# EAGLE library part KSZ9031RNX (library gothack-made)
KSZ9031RNX
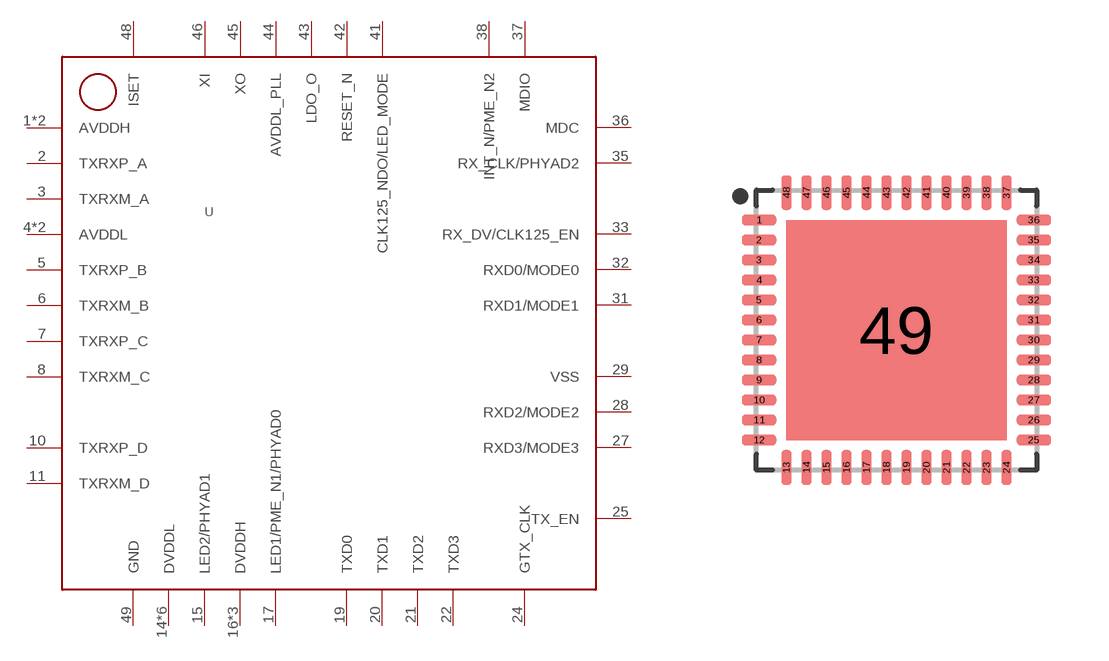
[diagram p0: symbol with the pads of QFN50P700X700X90-49N; footprint QFN50P700X700X90-49N]

Designator prefix -

## KSZ9031RNX  [QFN50P700X700X90-49N]
1  AVDDH
2  TXRXP_A
3  TXRXM_A
4  AVDDL
5  TXRXP_B
6  TXRXM_B
7  TXRXP_C
8  TXRXM_C
9  AVDDL
10  TXRXP_D
11  TXRXM_D
12  AVDDH
14  DVDDL
15  LED2/PHYAD1
16  DVDDH
17  LED1/PME_N1/PHYAD0
18  DVDDL
19  TXD0
20  TXD1
21  TXD2
22  TXD3
23  DVDDL
24  GTX_CLK
25  TX_EN
26  DVDDL
27  RXD3/MODE3
28  RXD2/MODE2
29  VSS
30  DVDDL
31  RXD1/MODE1
32  RXD0/MODE0
33  RX_DV/CLK125_EN
34  DVDDH
35  RX_CLK/PHYAD2
36  MDC
37  MDIO
38  INT_N/PME_N2
39  DVDDL
40  DVDDH
41  CLK125_NDO/LED_MODE
42  RESET_N
43  LDO_O
44  AVDDL_PLL
45  XO
46  XI
48  ISET
49  GND

## Footprint QFN50P700X700X90-49N (pad centres in mm)
smd 0.86 x 0.26: 1 -3.435,2.75; 2 -3.435,2.25; 3 -3.435,1.75; 4 -3.435,1.25; 5 -3.435,0.75; 6 -3.435,0.25; 7 -3.435,-0.25; 8 -3.435,-0.75; 9 -3.435,-1.25; 10 -3.435,-1.75; 11 -3.435,-2.25; 12 -3.435,-2.75; 25 3.435,-2.75; 26 3.435,-2.25; 27 3.435,-1.75; 28 3.435,-1.25; 29 3.435,-0.75; 30 3.435,-0.25; 31 3.435,0.25; 32 3.435,0.75; 33 3.435,1.25; 34 3.435,1.75; 35 3.435,2.25; 36 3.435,2.75
smd 0.26 x 0.86: 13 -2.75,-3.435; 14 -2.25,-3.435; 15 -1.75,-3.435; 16 -1.25,-3.435; 17 -0.75,-3.435; 18 -0.25,-3.435; 19 0.25,-3.435; 20 0.75,-3.435; 21 1.25,-3.435; 22 1.75,-3.435; 23 2.25,-3.435; 24 2.75,-3.435; 37 2.75,3.435; 38 2.25,3.435; 39 1.75,3.435; 40 1.25,3.435; 41 0.75,3.435; 42 0.25,3.435; 43 -0.25,3.435; 44 -0.75,3.435; 45 -1.25,3.435; 46 -1.75,3.435; 47 -2.25,3.435; 48 -2.75,3.435
smd 5.5 x 5.5: 49 0,0